# EAGLE library part S1D13505 (library Epson_LCD_Controller)
LCD/CRT Controller with Embedded RAMDAC
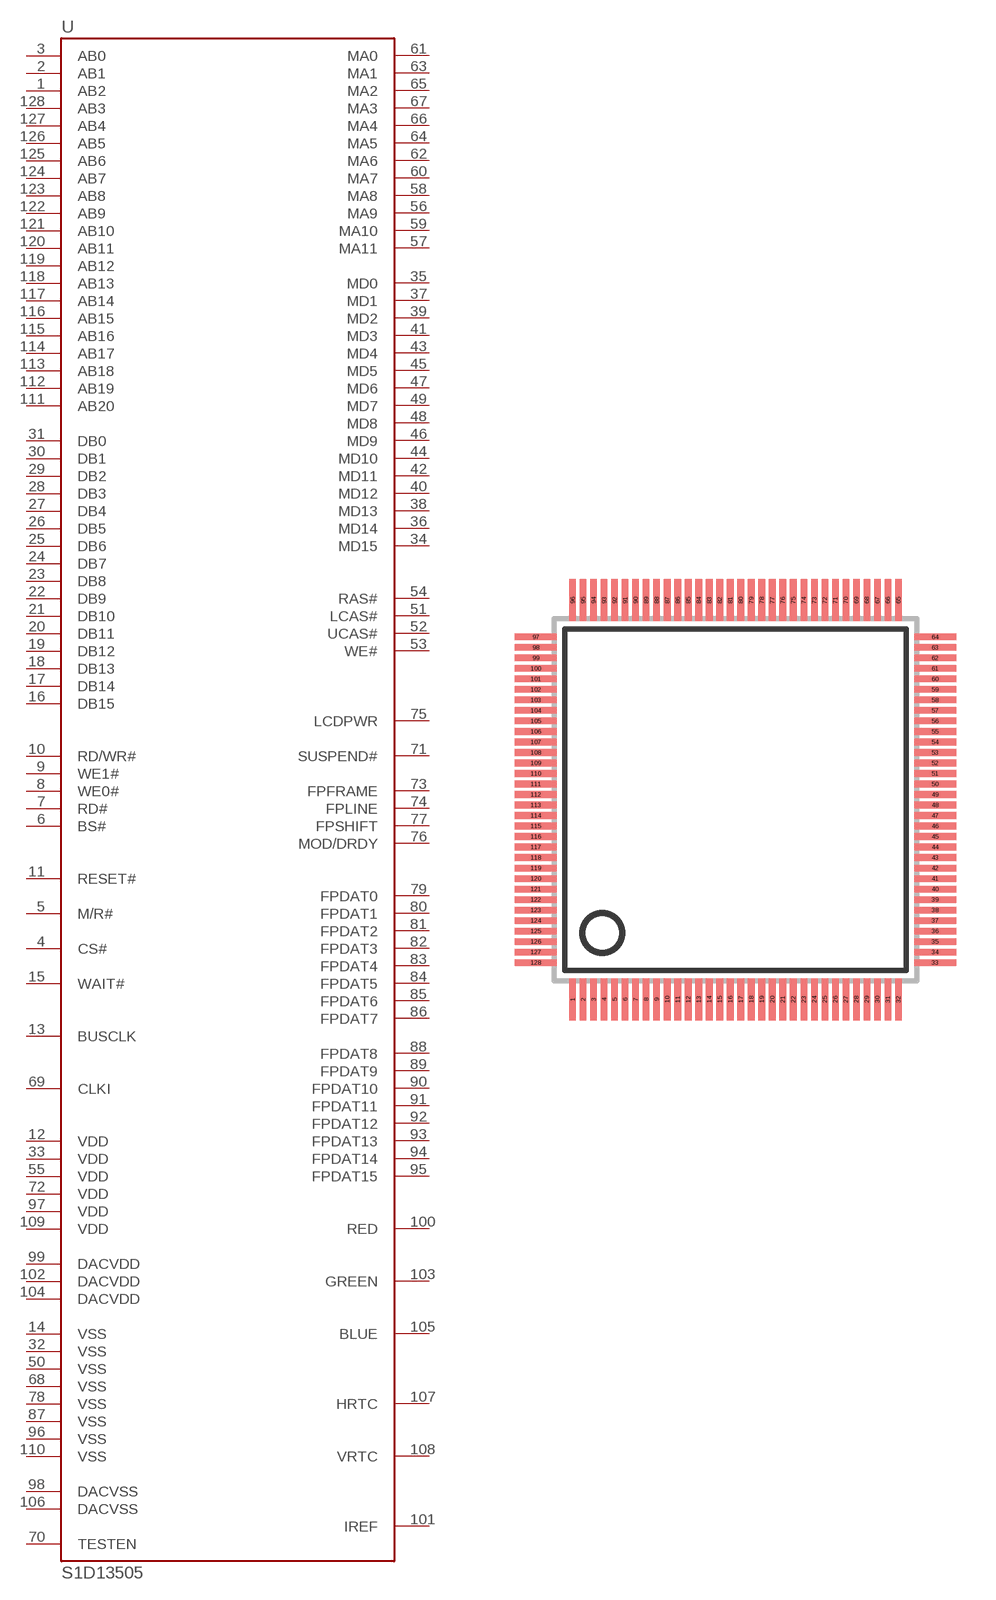
[diagram p0: symbol with the pads of SQFP-S-14X14-128; footprint SQFP-S-14X14-128]

Designator prefix U

## S1D13505  [SQFP-S-14X14-128]
1  AB2  in
2  AB1  in
3  AB0  in
4  CS#  in
5  M/R#  in
6  BS#  in
7  RD#  in
8  WE0#  in
9  WE1#
10  RD/WR#  in
11  RESET#  in
12  VDD  pwr
13  BUSCLK  in
14  VSS  pwr
15  WAIT#  out
16  DB15
17  DB14
18  DB13
19  DB12
20  DB11
21  DB10
22  DB9
23  DB8
24  DB7
25  DB6
26  DB5
27  DB4
28  DB3
29  DB2
30  DB1
31  DB0
32  VSS  pwr
33  VDD  pwr
34  MD15
35  MD0
36  MD14
37  MD1
38  MD13
39  MD2
40  MD12
41  MD3
42  MD11
43  MD4
44  MD10
45  MD5
46  MD9
47  MD6
48  MD8
49  MD7
50  VSS  pwr
51  LCAS#  out
52  UCAS#  out
53  WE#  out
54  RAS#  out
55  VDD  pwr
56  MA9
57  MA11
58  MA8  out
59  MA10
60  MA7  out
61  MA0  out
62  MA6  out
63  MA1  out
64  MA5  out
65  MA2  out
66  MA4  out
67  MA3  out
68  VSS  pwr
69  CLKI  in
70  TESTEN  in
71  SUSPEND#
72  VDD  pwr
73  FPFRAME  out
74  FPLINE  out
75  LCDPWR  out
76  MOD/DRDY  out
77  FPSHIFT  out
78  VSS  pwr
79  FPDAT0  out
80  FPDAT1  out
81  FPDAT2  out
82  FPDAT3  out
83  FPDAT4  out
84  FPDAT5  out
85  FPDAT6  out
86  FPDAT7  out
87  VSS  pwr
88  FPDAT8  out
89  FPDAT9  out
90  FPDAT10  out
91  FPDAT11  out
92  FPDAT12  out
93  FPDAT13  out
94  FPDAT14  out
95  FPDAT15  out
96  VSS  pwr
97  VDD  pwr
98  DACVSS  pwr
99  DACVDD  pwr
100  RED  out
101  IREF  in
102  DACVDD  pwr
103  GREEN  out
104  DACVDD  pwr
105  BLUE  out
106  DACVSS  pwr
107  HRTC
108  VRTC
109  VDD  pwr
110  VSS  pwr
111  AB20  in
112  AB19  in
113  AB18  in
114  AB17  in
115  AB16  in
116  AB15  in
117  AB14  in
118  AB13  in
119  AB12  in
120  AB11  in
121  AB10  in
122  AB9  in
123  AB8  in
124  AB7  in
125  AB6  in
126  AB5  in
127  AB4  in
128  AB3  in

## Footprint SQFP-S-14X14-128 (pad centres in mm)
QFP-128 shrink quad flat pack, square, 0.4mm pitch
smd 0.25 x 1.6: 1 -6.2,-7.6; 2 -5.8,-7.6; 3 -5.4,-7.6; 4 -5,-7.6; 5 -4.6,-7.6; 6 -4.2,-7.6; 7 -3.8,-7.6; 8 -3.4,-7.6; 9 -3,-7.6; 10 -2.6,-7.6; 11 -2.2,-7.6; 12 -1.8,-7.6; 13 -1.4,-7.6; 14 -1,-7.6; 15 -0.6,-7.6; 16 -0.2,-7.6; 17 0.2,-7.6; 18 0.6,-7.6; 19 1,-7.6; 20 1.4,-7.6; 21 1.8,-7.6; 22 2.2,-7.6; 23 2.6,-7.6; 24 3,-7.6; 25 3.4,-7.6; 26 3.8,-7.6; 27 4.2,-7.6; 28 4.6,-7.6; 29 5,-7.6; 30 5.4,-7.6; 31 5.8,-7.6; 32 6.2,-7.6; 65 6.2,7.6; 66 5.8,7.6; 67 5.4,7.6; 68 5,7.6; 69 4.6,7.6; 70 4.2,7.6; 71 3.8,7.6; 72 3.4,7.6; 73 3,7.6; 74 2.6,7.6; 75 2.2,7.6; 76 1.8,7.6; 77 1.4,7.6; 78 1,7.6; 79 0.6,7.6; 80 0.2,7.6; 81 -0.2,7.6; 82 -0.6,7.6; 83 -1,7.6; 84 -1.4,7.6; 85 -1.8,7.6; 86 -2.2,7.6; 87 -2.6,7.6; 88 -3,7.6; 89 -3.4,7.6; 90 -3.8,7.6; 91 -4.2,7.6; 92 -4.6,7.6; 93 -5,7.6; 94 -5.4,7.6; 95 -5.8,7.6; 96 -6.2,7.6
smd 1.6 x 0.25: 33 7.6,-6.2; 34 7.6,-5.8; 35 7.6,-5.4; 36 7.6,-5; 37 7.6,-4.6; 38 7.6,-4.2; 39 7.6,-3.8; 40 7.6,-3.4; 41 7.6,-3; 42 7.6,-2.6; 43 7.6,-2.2; 44 7.6,-1.8; 45 7.6,-1.4; 46 7.6,-1; 47 7.6,-0.6; 48 7.6,-0.2; 49 7.6,0.2; 50 7.6,0.6; 51 7.6,1; 52 7.6,1.4; 53 7.6,1.8; 54 7.6,2.2; 55 7.6,2.6; 56 7.6,3; 57 7.6,3.4; 58 7.6,3.8; 59 7.6,4.2; 60 7.6,4.6; 61 7.6,5; 62 7.6,5.4; 63 7.6,5.8; 64 7.6,6.2; 97 -7.6,6.2; 98 -7.6,5.8; 99 -7.6,5.4; 100 -7.6,5; 101 -7.6,4.6; 102 -7.6,4.2; 103 -7.6,3.8; 104 -7.6,3.4; 105 -7.6,3; 106 -7.6,2.6; 107 -7.6,2.2; 108 -7.6,1.8; 109 -7.6,1.4; 110 -7.6,1; 111 -7.6,0.6; 112 -7.6,0.2; 113 -7.6,-0.2; 114 -7.6,-0.6; 115 -7.6,-1; 116 -7.6,-1.4; 117 -7.6,-1.8; 118 -7.6,-2.2; 119 -7.6,-2.6; 120 -7.6,-3; 121 -7.6,-3.4; 122 -7.6,-3.8; 123 -7.6,-4.2; 124 -7.6,-4.6; 125 -7.6,-5; 126 -7.6,-5.4; 127 -7.6,-5.8; 128 -7.6,-6.2